# Altium footprint library IC-MacroSilicon.PcbLib: 4 footprints
Each footprint in its own frame and in the unit in brackets; x right, y up, seen from the top. Pads: shape width x height; smd on the part's side, far side on the other; paste and mask are expansions set on the pad; w line width, h text height; cw(c..) or ccw(c..) is an arc to the next point about the centre after c.
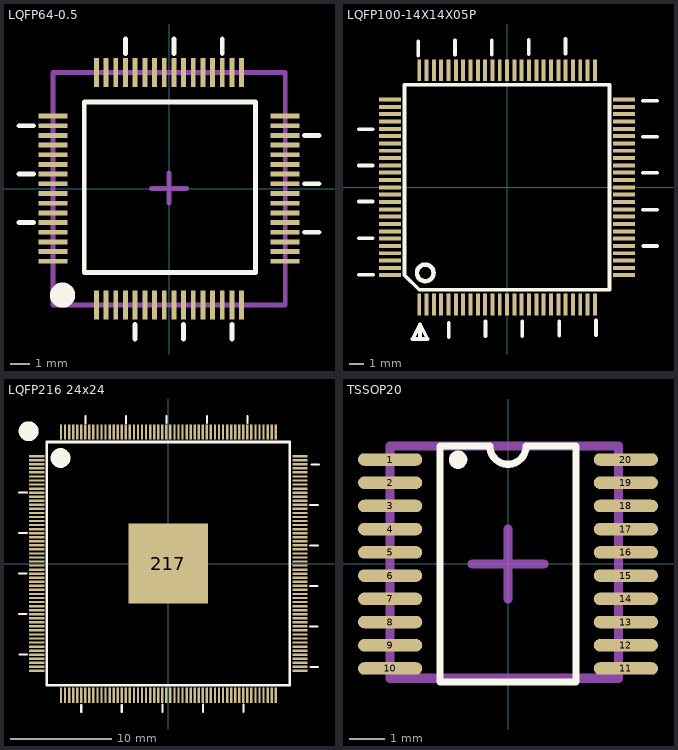
[diagram p0: the footprints below, top view; thin cyan lines are the x and y axes]

## LQFP64-0.5 [mm]
pads (64):
  rect 0.25x1.5 smd: 1(-3.75,-6) 2(-3.25,-6) 3(-2.75,-6) 4(-2.25,-6) 5(-1.75,-6) 6(-1.25,-6) 7(-0.75,-6) 8(-0.25,-6) 9(0.25,-6) 10(0.75,-6) 11(1.25,-6) 12(1.75,-6) 13(2.25,-6) 14(2.75,-6) 15(3.25,-6) 16(3.75,-6) 33(3.75,6) 34(3.25,6) 35(2.75,6) 36(2.25,6) 37(1.75,6) 38(1.25,6) 39(0.75,6) 40(0.25,6) 41(-0.25,6) 42(-0.75,6) 43(-1.25,6) 44(-1.75,6) 45(-2.25,6) 46(-2.75,6) 47(-3.25,6) 48(-3.75,6)
  rect 1.5x0.25 smd: 17(6,-3.75) 18(6,-3.25) 19(6,-2.75) 20(6,-2.25) 21(6,-1.75) 22(6,-1.25) 23(6,-0.75) 24(6,-0.25) 25(6,0.25) 26(6,0.75) 27(6,1.25) 28(6,1.75) 29(6,2.25) 30(6,2.75) 31(6,3.25) 32(6,3.75) 49(-6,3.75) 50(-6,3.25) 51(-6,2.75) 52(-6,2.25) 53(-6,1.75) 54(-6,1.25) 55(-6,0.75) 56(-6,0.25) 57(-6,-0.25) 58(-6,-0.75) 59(-6,-1.25) 60(-6,-1.75) 61(-6,-2.25) 62(-6,-2.75) 63(-6,-3.25) 64(-6,-3.75)
Top Overlay:
  circle w0.7: c-5.5,-5.5 r0.3
  lines w0.25: -7.741,-1.75 -6.996,-1.75 ; -7.741,0.75 -6.996,0.75 ; -7.741,3.25 -6.996,3.25 ; -2.25,6.983 -2.25,7.728 ; -1.75,-7.765 -1.75,-7.02 ; 0.25,6.983 0.25,7.728 ; 0.75,-7.765 0.75,-7.02 ; 2.75,6.983 2.75,7.728 ; 3.25,-7.765 3.25,-7.02 ; 6.992,-2.25 7.737,-2.25 ; 6.992,0.25 7.737,0.25 ; 6.992,2.75 7.737,2.75
  lines w0.254: -4.379,-4.324 4.472,-4.324 4.472,4.476 -4.379,4.476 -4.379,-4.324
Top Component Outline:
  lines w0.254: -6,-6 -6,6 6,6 6,-6 -6,-6
Top Component Center:
  lines w0.254: -0.9,0 0.9,0 ; 0,-0.75 0,0.8
Top Value:
  text "'.Comment'" at -5.9,-0.481 h2.54
Top Designator:
  text "'.Designator'" at -7.1,-0.256 h2.54
3D body "LQFP64 10x10.STEP": height 1.45, standoff 0, extent -6.003,-5.986 6.003,6.02

## LQFP100-14X14X05P [mm]
pads (100):
  rect 0.27x1.5 smd: 1(-6,-8) 2(-5.5,-8) 3(-5,-8) 4(-4.5,-8) 5(-4,-8) 6(-3.5,-8) 7(-3,-8) 8(-2.5,-8) 9(-2,-8) 10(-1.5,-8) 11(-1,-8) 12(-0.5,-8) 13(0,-8) 14(0.5,-8) 15(1,-8) 16(1.5,-8) 17(2,-8) 18(2.5,-8) 19(3,-8) 20(3.5,-8) 21(4,-8) 22(4.5,-8) 23(5,-8) 24(5.5,-8) 25(6,-8) 51(6,8) 52(5.5,8) 53(5,8) 54(4.5,8) 55(4,8) 56(3.5,8) 57(3,8) 58(2.5,8) 59(2,8) 60(1.5,8) 61(1,8) 62(0.5,8) 63(0,8) 64(-0.5,8) 65(-1,8) 66(-1.5,8) 67(-2,8) 68(-2.5,8) 69(-3,8) 70(-3.5,8) 71(-4,8) 72(-4.5,8) 73(-5,8) 74(-5.5,8) 75(-6,8)
  rect 1.5x0.27 smd: 26(8,-6) 27(8,-5.5) 28(8,-5) 29(8,-4.5) 30(8,-4) 31(8,-3.5) 32(8,-3) 33(8,-2.5) 34(8,-2) 35(8,-1.5) 36(8,-1) 37(8,-0.5) 38(8,0) 39(8,0.5) 40(8,1) 41(8,1.5) 42(8,2) 43(8,2.5) 44(8,3) 45(8,3.5) 46(8,4) 47(8,4.5) 48(8,5) 49(8,5.5) 50(8,6) 76(-8,6) 77(-8,5.5) 78(-8,5) 79(-8,4.5) 80(-8,4) 81(-8,3.5) 82(-8,3) 83(-8,2.5) 84(-8,2) 85(-8,1.5) 86(-8,1) 87(-8,0.5) 88(-8,0) 89(-8,-0.5) 90(-8,-1) 91(-8,-1.5) 92(-8,-2) 93(-8,-2.5) 94(-8,-3) 95(-8,-3.5) 96(-8,-4) 97(-8,-4.5) 98(-8,-5) 99(-8,-5.5) 100(-8,-6)
Top Overlay:
  circle w0.305: c-5.588,-5.842 r0.568
  lines w0.254: -10.135,-3.48 -9.169,-3.48 ; -10.135,-0.965 -9.169,-0.965 ; -10.135,1.499 -9.169,1.499 ; -10.135,3.962 -9.169,3.962 ; -10.109,-5.969 -9.144,-5.969 ; -6.071,8.992 -6.071,9.982 ; -5.945,-10.359 -5.945,-9.343 ; -3.988,-10.236 -3.988,-9.246 ; -3.556,9.068 -3.556,10.058 ; -1.473,-10.16 -1.473,-9.169 ; -1.041,9.068 -1.041,10.058 ; 1.041,-10.16 1.041,-9.169 ; 1.473,9.093 1.473,10.084 ; 3.556,-10.135 3.556,-9.144 ; 3.988,9.144 3.988,10.135 ; 6.071,-10.084 6.071,-9.093 ; 9.271,-1.524 10.236,-1.524 ; 9.271,0.991 10.236,0.991 ; 9.271,3.454 10.236,3.454 ; 9.271,5.918 10.236,5.918 ; 9.296,-4.013 10.262,-4.013 ; -5.945,-9.343 -6.453,-10.359 -5.437,-10.359 -5.945,-9.343 ; -7,-6 -6,-7 7,-7 7,7 -7,7 -7,-6
Top Value:
  text "'.Comment'" at -5.9,-0.481 h2.54
Top Designator:
  text "'.Designator'" at -7.1,-0.256 h2.54
3D body "LQFP-100-14x14.STEP": height 1.55, standoff 0, extent -8.011,-8.01 8.01,8.011

## LQFP216 24x24 [mm]
pads (217):
  rect 1.5x0.23 smd: 1(-13,10.6) 2(-13,10.2) 3(-13,9.8) 4(-13,9.4) 5(-13,9) 6(-13,8.6) 7(-13,8.2) 8(-13,7.8) 9(-13,7.4) 10(-13,7) 11(-13,6.6) 12(-13,6.2) 13(-13,5.8) 14(-13,5.4) 15(-13,5) 16(-13,4.6) 17(-13,4.2) 18(-13,3.8) 19(-13,3.4) 20(-13,3) 21(-13,2.6) 22(-13,2.2) 23(-13,1.8) 24(-13,1.4) 25(-13,1) 26(-13,0.6) 27(-13,0.2) 28(-13,-0.2) 29(-13,-0.6) 30(-13,-1) 31(-13,-1.4) 32(-13,-1.8) 33(-13,-2.2) 34(-13,-2.6) 35(-13,-3) 36(-13,-3.4) 37(-13,-3.8) 38(-13,-4.2) 39(-13,-4.6) 40(-13,-5) 41(-13,-5.4) 42(-13,-5.8) 43(-13,-6.2) 44(-13,-6.6) 45(-13,-7) 46(-13,-7.4) 47(-13,-7.8) 48(-13,-8.2) 49(-13,-8.6) 50(-13,-9) 51(-13,-9.4) 52(-13,-9.8) 53(-13,-10.2) 54(-13,-10.6) 109(13,-10.6) 110(13,-10.2) 111(13,-9.8) 112(13,-9.4) 113(13,-9) 114(13,-8.6) 115(13,-8.2) 116(13,-7.8) 117(13,-7.4) 118(13,-7) 119(13,-6.6) 120(13,-6.2) 121(13,-5.8) 122(13,-5.4) 123(13,-5) 124(13,-4.6) 125(13,-4.2) 126(13,-3.8) 127(13,-3.4) 128(13,-3) 129(13,-2.6) 130(13,-2.2) 131(13,-1.8) 132(13,-1.4) 133(13,-1) 134(13,-0.6) 135(13,-0.2) 136(13,0.2) 137(13,0.6) 138(13,1) 139(13,1.4) 140(13,1.8) 141(13,2.2) 142(13,2.6) 143(13,3) 144(13,3.4) 145(13,3.8) 146(13,4.2) 147(13,4.6) 148(13,5) 149(13,5.4) 150(13,5.8) 151(13,6.2) 152(13,6.6) 153(13,7) 154(13,7.4) 155(13,7.8) 156(13,8.2) 157(13,8.6) 158(13,9) 159(13,9.4) 160(13,9.8) 161(13,10.2) 162(13,10.6)
  rect 0.23x1.5 smd: 55(-10.6,-13) 56(-10.2,-13) 57(-9.8,-13) 58(-9.4,-13) 59(-9,-13) 60(-8.6,-13) 61(-8.2,-13) 62(-7.8,-13) 63(-7.4,-13) 64(-7,-13) 65(-6.6,-13) 66(-6.2,-13) 67(-5.8,-13) 68(-5.4,-13) 69(-5,-13) 70(-4.6,-13) 71(-4.2,-13) 72(-3.8,-13) 73(-3.4,-13) 74(-3,-13) 75(-2.6,-13) 76(-2.2,-13) 77(-1.8,-13) 78(-1.4,-13) 79(-1,-13) 80(-0.6,-13) 81(-0.2,-13) 82(0.2,-13) 83(0.6,-13) 84(1,-13) 85(1.4,-13) 86(1.8,-13) 87(2.2,-13) 88(2.6,-13) 89(3,-13) 90(3.4,-13) 91(3.8,-13) 92(4.2,-13) 93(4.6,-13) 94(5,-13) 95(5.4,-13) 96(5.8,-13) 97(6.2,-13) 98(6.6,-13) 99(7,-13) 100(7.4,-13) 101(7.8,-13) 102(8.2,-13) 103(8.6,-13) 104(9,-13) 105(9.4,-13) 106(9.8,-13) 107(10.2,-13) 108(10.6,-13) 163(10.6,13) 164(10.2,13) 165(9.8,13) 166(9.4,13) 167(9,13) 168(8.6,13) 169(8.2,13) 170(7.8,13) 171(7.4,13) 172(7,13) 173(6.6,13) 174(6.2,13) 175(5.8,13) 176(5.4,13) 177(5,13) 178(4.6,13) 179(4.2,13) 180(3.8,13) 181(3.4,13) 182(3,13) 183(2.6,13) 184(2.2,13) 185(1.8,13) 186(1.4,13) 187(1,13) 188(0.6,13) 189(0.2,13) 190(-0.2,13) 191(-0.6,13) 192(-1,13) 193(-1.4,13) 194(-1.8,13) 195(-2.2,13) 196(-2.6,13) 197(-3,13) 198(-3.4,13) 199(-3.8,13) 200(-4.2,13) 201(-4.6,13) 202(-5,13) 203(-5.4,13) 204(-5.8,13) 205(-6.2,13) 206(-6.6,13) 207(-7,13) 208(-7.4,13) 209(-7.8,13) 210(-8.2,13) 211(-8.6,13) 212(-9,13) 213(-9.4,13) 214(-9.8,13) 215(-10.2,13) 216(-10.6,13)
  rect 7.87x7.87 smd: 217(0,0)
Top Overlay:
  circle w1: c-13.796,13.071 r0.48
  circle w1: c-10.641,10.424 r0.48
  lines w0.203: -14.747,-5 -13.985,-5 ; -14.747,-1 -13.985,-1 ; -14.732,3 -13.97,3 ; -14.732,7 -13.97,7 ; -14.707,-9 -13.945,-9 ; -8.6,-14.664 -8.6,-13.952 ; -8.2,13.846 -8.2,14.559 ; -4.6,-14.662 -4.6,-13.949 ; -4.2,13.848 -4.2,14.561 ; -0.6,-14.649 -0.6,-13.936 ; -0.2,13.862 -0.2,14.574 ; 3.4,-14.646 3.4,-13.934 ; 3.8,13.864 3.8,14.577 ; 7.4,-14.648 7.4,-13.935 ; 7.8,13.863 7.8,14.575 ; 13.973,-6.2 14.735,-6.2 ; 13.973,-2.2 14.735,-2.2 ; 13.988,1.8 14.75,1.8 ; 13.988,5.8 14.75,5.8 ; 14.014,-10.2 14.776,-10.2 ; 14.112,9.8 14.874,9.8
  lines w0.254: -12,-12 -12,12 12,12 12,-12 -12,-12
Top Value:
  text "'.Comment'" at -5.9,-0.481 h2.54
Top Designator:
  text "'.Designator'" at -7.1,-0.256 h2.54
3D body "LQFP216 24x24.STEP": height 1.45, standoff 0, extent -13.002,-13.01 13.004,12.996

## TSSOP20 [mm]
pads (20):
  oval 1.8x0.35 smd: 1(-3.3,2.925) 2(-3.3,2.275) 3(-3.3,1.625) 4(-3.3,0.975) 5(-3.3,0.325) 6(-3.3,-0.325) 7(-3.3,-0.975) 8(-3.3,-1.625) 9(-3.3,-2.275) 10(-3.3,-2.925) 11(3.3,-2.925) 12(3.3,-2.275) 13(3.3,-1.625) 14(3.3,-0.975) 15(3.3,-0.325) 16(3.3,0.325) 17(3.3,0.975) 18(3.3,1.625) 19(3.3,2.275) 20(3.3,2.925)
Top Overlay:
  circle w0.254: c-1.397,2.921 r0.13
  lines w0.2: -1.905,-3.3 -1.905,3.299 -0.508,3.302 ccw(c0,3.3) 0.508,3.3 1.905,3.3 1.905,-3.3 -1.905,-3.3
Top Component Outline:
  lines w0.254: -3.3,-3.2 -3.3,3.3 3.1,3.3 3.1,-3.2 -3.3,-3.2
Top Component Center:
  lines w0.254: -1,0 1,0 ; 0,-0.975 0,0.975
Top Value:
  text "'.Comment'" at -5.5,-0.481 h2.54
Top Designator:
  text "'.Designator'" at -7,-0.056 h2.54
3D body "TSSOP20.STEP": height 1.03, standoff -0.02, extent -3.278,-3.249 3.126,3.251